# EAGLE library part 74LS04D (library EW_IC_74_Logic)
digital one-bit-wide inverter. Category: Gates Manufacturer: Generic
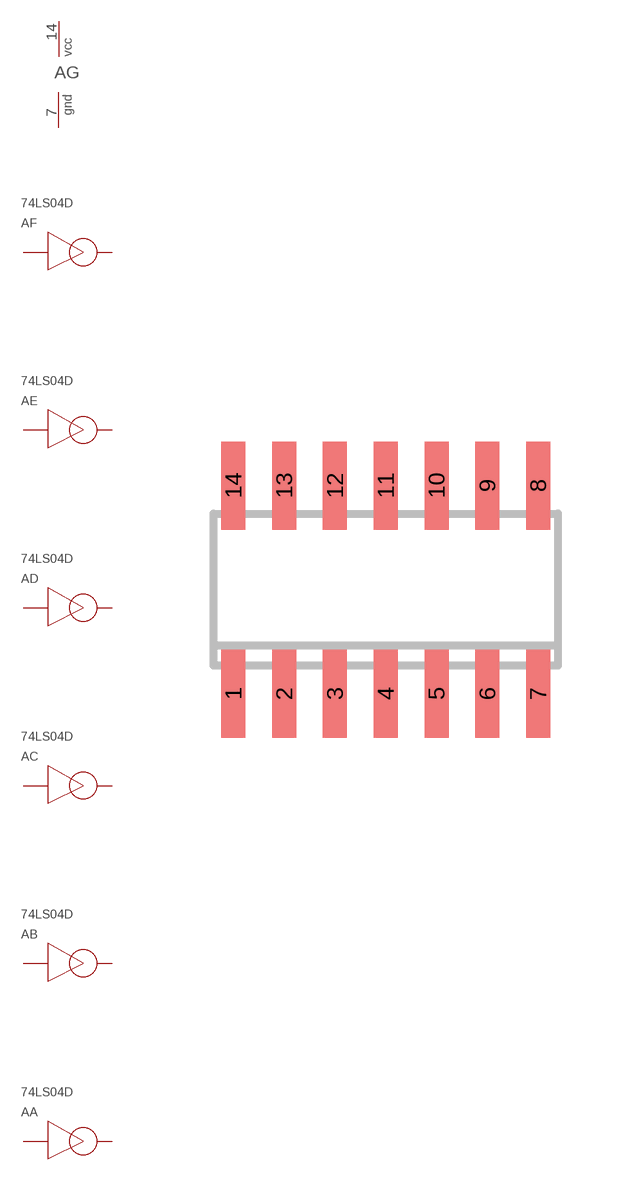
[diagram p187: symbol with the pads of SO14; footprint SO14]

Designator prefix A; gates A=INVERTER B=INVERTER C=INVERTER D=INVERTER E=INVERTER F=INVERTER G=PWRN

## 74LS04D  [SO14]
1  A:IN  pwr
2  A:OUT  pwr
3  B:IN  pwr
4  B:OUT  pwr
5  C:IN  pwr
6  C:OUT  pwr
7  G:GND  pwr
8  D:OUT  pwr
9  D:IN  pwr
10  E:OUT  pwr
11  E:IN  pwr
12  F:OUT  pwr
13  F:IN  pwr
14  G:VCC  pwr

## Footprint SO14 (pad centres in mm)
SMALL OUTLINE INTEGRATED CIRCUIT body 3.9 mm/JEDEC MS-012AC
smd 0.6 x 2.2: 1 -3.81,-2.6; 2 -2.54,-2.6; 3 -1.27,-2.6; 4 0,-2.6; 5 1.27,-2.6; 6 2.54,-2.6; 7 3.81,-2.6; 8 3.81,2.6; 9 2.54,2.6; 10 1.27,2.6; 11 0,2.6; 12 -1.27,2.6; 13 -2.54,2.6; 14 -3.81,2.6